# EAGLE library part 66201011122 (library Wire-to-Board (rev18a))
WR-MPC3 3.00mm Male Single Row Vertical Header, 10 Pins=>Code : Con_WTB_MPC3_1_PCB_66201011122 <http://katalog.we-online.de/media/thumbs2/eican/thb_Con_WTB_MPC3_1_PCB_6620xx11122_pf2.jpg> Details see: http://katalog.we-online.de/en/em/MPC3_3_00_MALE_SINGLE_ROW_VERTICAL_HEADER_6620XX11122 Created 2014-06-06, Karrer Zheng 2014 (C) Würth Elektronik
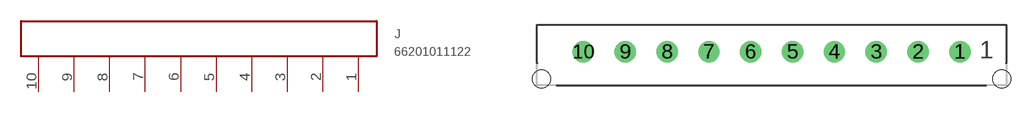
[diagram p348: symbol with the pads of 66201011122; footprint 66201011122]

Designator prefix J

## 66201011122  [66201011122]
1  10  pas
2  9  pas
3  8  pas
4  7  pas
5  6  pas
6  5  pas
7  4  pas
8  3  pas
9  2  pas
10  1  pas

## Footprint 66201011122 (pad centres in mm)
WR-MPC3 3.00mm Male Single Row Vertical Header, 10 Pins
drill 1.02: 1 13.5,0; 2 10.5,0; 3 7.5,0; 4 4.5,0; 5 1.5,0; 6 -1.5,0; 7 -4.5,0; 8 -7.5,0; 9 -10.5,0; 10 -13.5,0
hole 1.27 at 16.5,-1.96
hole 1.27 at -16.5,-1.96